# Altium footprint library VD.PcbLib: 16 footprints
Each footprint in its own frame and in the unit in brackets; x right, y up, seen from the top. Pads: shape width x height; smd on the part's side, far side on the other; paste and mask are expansions set on the pad; w line width, h text height; cw(c..) or ccw(c..) is an arc to the next point about the centre after c.
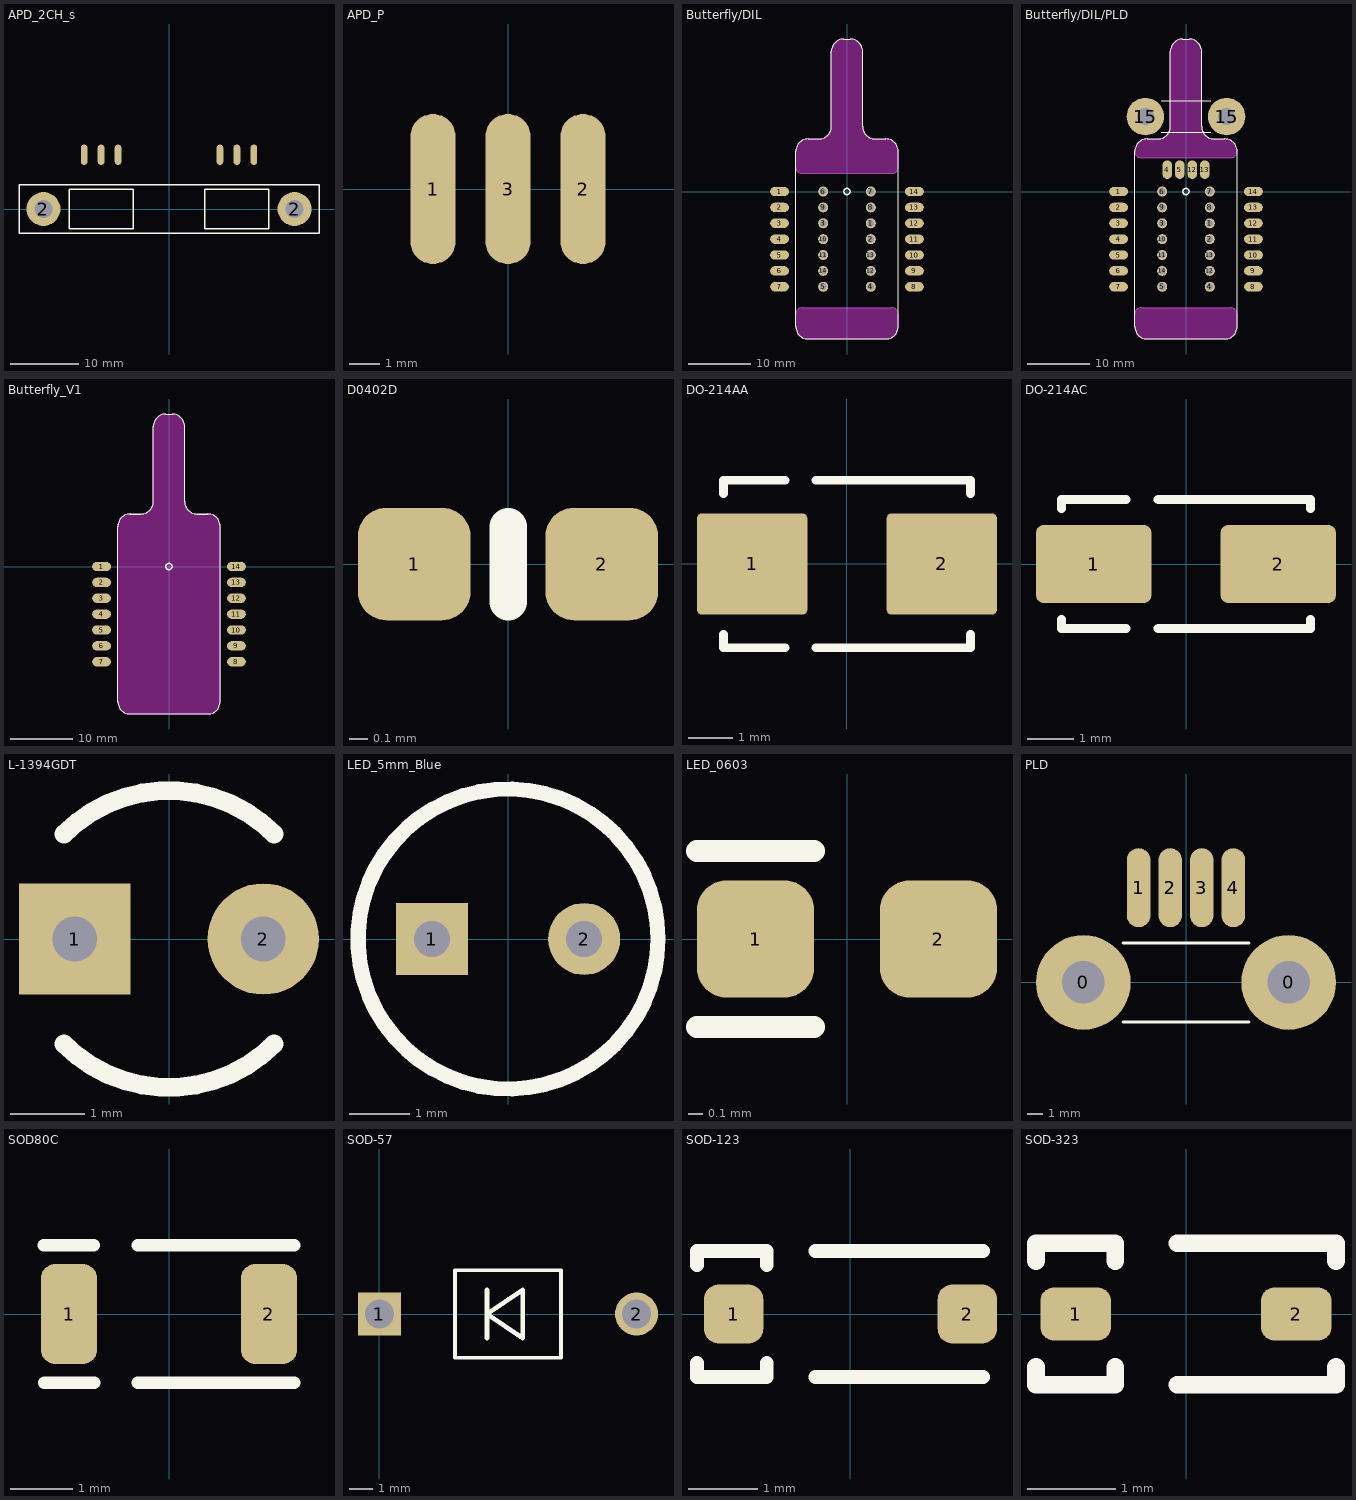
[diagram p0: the footprints below, top view; thin cyan lines are the x and y axes]

## APD_2CH_s [mm]
pads (8):
  oval 1x3 smd: 1(-12.5,8) 2(-10,8) 3(-7.5,8) 4(7.5,8) 5(10,8) 6(12.5,8)
  round 5 hole 2.6: 2(-18.5,0) 2(18.5,0)
Top Overlay:
  lines w0.2: -22.1,-3.6 -22.1,3.6 22.1,3.6 22.1,-3.6 -22.1,-3.6 ; -14.7,-2.9 -14.7,2.9 -5.3,2.9 -5.3,-2.9 -14.7,-2.9 ; 5.3,-2.9 5.3,2.9 14.7,2.9 14.7,-2.9 5.3,-2.9
Top Solder:
  pour cut-out: 14.6,-2.8 14.6,2.8 5.4,2.8 5.4,-2.8
  pour cut-out: -14.6,2.8 -14.6,-2.8 -5.4,-2.8 -5.4,2.8
3D body "Сборка_Радиатор.STEP": height 9, standoff 0, extent -22,-21.5 22,16.75

## APD_P [mm]
pads (3):
  oval 1.5x5 smd: 1(-2.5,0) 2(2.5,0) 3(0,0)

## Butterfly/DIL [mm]
pads (28):
  oval 3x1.5 smd: 1(-10.795,0) 2(-10.795,-2.54) 3(-10.795,-5.08) 4(-10.795,-7.62) 5(-10.795,-10.16) 6(-10.795,-12.7) 7(-10.795,-15.24) 8(10.795,-15.24) 9(10.795,-12.7) 10(10.795,-10.16) 11(10.795,-7.62) 12(10.795,-5.08) 13(10.795,-2.54) 14(10.795,0)
  round 1.6 hole 1: 1(3.81,-5.08) 2(3.81,-7.62) 3(-3.81,-5.08) 4(3.81,-15.24) 5(-3.81,-15.24) 6(-3.81,0) 7(3.81,0) 8(3.81,-2.54) 9(-3.81,-2.54) 10(-3.81,-7.62) 11(-3.81,-10.16) 12(3.81,-12.7) 13(3.81,-10.16) 14(-3.81,-12.7)
Top Overlay:
  circle w0.254: c0,0 r0.5
  lines w0.2: -2.5,10.41 cw(c-4.5,10.41) -4.5,8.41 -6.2,8.41 ccw(c-6.2,6.41) -8.2,6.41 -8.2,-21.59 ccw(c-6.2,-21.59) -6.2,-23.59 0,-23.59 6.2,-23.59 ccw(c6.2,-21.59) 8.2,-21.59 8.2,6.41 ccw(c6.2,6.41) 6.2,8.41 4.5,8.41 cw(c4.5,10.41) 2.5,10.41 2.5,22.41 ccw(c0.5,22.41) 0.5,24.41 -0.5,24.41 ccw(c-0.5,22.41) -2.5,22.41 ; -2.5,10.41 -2.5,22.41
Keep-Out Layer:
  board cut-out: -2.5,22.4 -2.5,10.4 -2.51,10.204 -2.586,9.819 -2.736,9.457 -2.954,9.131 -3.231,8.854 -3.557,8.636 -3.919,8.486 -4.304,8.41 -4.5,8.4 -6.2,8.4 -6.397,8.4 -6.783,8.323 -7.147,8.172 -7.475,7.953 -7.754,7.675 -7.972,7.347 -8.123,6.983 -8.2,6.597 -8.2,6.4 -8.2,3.9 -8.2,3.801 -8.162,3.608 -8.086,3.426 -7.977,3.263 -7.837,3.123 -7.674,3.014 -7.492,2.938 -7.298,2.9 -7.2,2.9 7.2,2.9 7.298,2.9 7.492,2.938 7.674,3.014 7.837,3.123 7.977,3.263 8.086,3.426 8.162,3.608 8.2,3.801 8.2,3.9 8.2,6.4 8.2,6.597 8.123,6.983 7.972,7.347 7.753,7.675 7.475,7.953 7.147,8.172 6.783,8.323 6.397,8.4 6.2,8.4 4.5,8.4 4.304,8.41 3.919,8.486 3.557,8.636 3.231,8.854 2.954,9.131 2.736,9.457 2.586,9.819 2.51,10.204 2.5,10.4 2.5,22.4 2.5,22.597 2.423,22.983 2.272,23.347 2.054,23.675 1.775,23.954 1.447,24.172 1.083,24.323 0.697,24.4 0.5,24.4 -0.5,24.4 -0.697,24.4 -1.083,24.323 -1.447,24.172 -1.775,23.954 -2.054,23.675 -2.272,23.347 -2.423,22.983 -2.5,22.597
  board cut-out: -7.2,-18.6 7.2,-18.6 7.298,-18.6 7.492,-18.638 7.674,-18.714 7.837,-18.823 7.977,-18.963 8.086,-19.126 8.162,-19.308 8.2,-19.502 8.2,-19.6 8.2,-21.6 8.2,-21.797 8.123,-22.183 7.972,-22.547 7.753,-22.875 7.475,-23.154 7.147,-23.372 6.783,-23.523 6.397,-23.6 6.2,-23.6 -6.2,-23.6 -6.397,-23.6 -6.783,-23.523 -7.147,-23.372 -7.475,-23.154 -7.754,-22.875 -7.972,-22.547 -8.123,-22.183 -8.2,-21.797 -8.2,-21.6 -8.2,-19.6 -8.2,-19.502 -8.162,-19.308 -8.086,-19.126 -7.977,-18.963 -7.837,-18.823 -7.674,-18.714 -7.492,-18.638 -7.298,-18.6
Mechanical 5:
  lines w0.2: -2.5,10.4 cw(c-4.5,10.4) -4.5,8.4 -6.2,8.4 ccw(c-6.2,6.4) -8.2,6.4 -8.2,3.9 ccw(c-7.2,3.9) -7.2,2.9 7.2,2.9 ccw(c7.2,3.9) 8.2,3.9 8.2,6.4 ccw(c6.2,6.4) 6.2,8.4 4.5,8.4 cw(c4.5,10.4) 2.5,10.4 2.5,22.4 ccw(c0.5,22.4) 0.5,24.4 ; -2.5,22.4 cw(c-0.5,22.4) -0.5,24.4 ; -2.5,10.4 -2.5,22.4 ; -0.5,24.4 0.5,24.4 ; -0.5,24.4 0.5,24.4 ; -8.2,-21.6 ccw(c-6.2,-21.6) -6.2,-23.6 0,-23.6 6.2,-23.6 ccw(c6.2,-21.6) 8.2,-21.6 8.2,-19.6 ccw(c7.2,-19.6) 7.2,-18.6 -7.2,-18.6 ccw(c-7.2,-19.6) -8.2,-19.6 -8.2,-21.6
Multi-Layer:
  lines w0.2: -2.5,10.4 cw(c-4.5,10.4) -4.5,8.4 -6.2,8.4 ccw(c-6.2,6.4) -8.2,6.4 -8.2,3.9 ccw(c-7.2,3.9) -7.2,2.9 7.2,2.9 ccw(c7.2,3.9) 8.2,3.9 8.2,6.4 ccw(c6.2,6.4) 6.2,8.4 4.5,8.4 cw(c4.5,10.4) 2.5,10.4 2.5,22.4 ccw(c0.5,22.4) 0.5,24.4 ; -2.5,22.4 cw(c-0.5,22.4) -0.5,24.4 ; -2.5,10.4 -2.5,22.4 ; -0.5,24.4 0.5,24.4 ; -0.5,24.4 0.5,24.4 ; -8.2,-21.6 ccw(c-6.2,-21.6) -6.2,-23.6 0,-23.6 6.2,-23.6 ccw(c6.2,-21.6) 8.2,-21.6 8.2,-19.6 ccw(c7.2,-19.6) 7.2,-18.6 -7.2,-18.6 ccw(c-7.2,-19.6) -8.2,-19.6 -8.2,-21.6
3D body "LC96P.STEP": height 3.18, standoff -4.48, extent -11.6,-22.62 11.6,27.88

## Butterfly/DIL/PLD [mm]
pads (34):
  oval 3x1.5 smd: 1(-10.795,0) 2(-10.795,-2.54) 3(-10.795,-5.08) 4(-10.795,-7.62) 5(-10.795,-10.16) 6(-10.795,-12.7) 7(-10.795,-15.24) 8(10.795,-15.24) 9(10.795,-12.7) 10(10.795,-10.16) 11(10.795,-7.62) 12(10.795,-5.08) 13(10.795,-2.54) 14(10.795,0)
  round 1.6 hole 1: 1(3.81,-5.08) 2(3.81,-7.62) 3(-3.81,-5.08) 4(3.81,-15.24) 5(-3.81,-15.24) 6(-3.81,0) 7(3.81,0) 8(3.81,-2.54) 9(-3.81,-2.54) 10(-3.81,-7.62) 11(-3.81,-10.16) 12(3.81,-12.7) 13(3.81,-10.16) 14(-3.81,-12.7)
  oval 1.5x3 smd: 4(-3,3.5) 5(-1,3.5) 12(1,3.5) 13(3,3.5)
  round 6 hole 2.7: 15(-6.5,12) 15(6.5,12)
Top Overlay:
  circle w0.254: c0,0 r0.5
  lines w0.2: -4,9.5 4,9.5 ; -4,14.5 4,14.5 ; -2.5,10.41 cw(c-4.5,10.41) -4.5,8.41 -6.2,8.41 ccw(c-6.2,6.41) -8.2,6.41 -8.2,-21.59 ccw(c-6.2,-21.59) -6.2,-23.59 0,-23.59 6.2,-23.59 ccw(c6.2,-21.59) 8.2,-21.59 8.2,6.41 ccw(c6.2,6.41) 6.2,8.41 4.5,8.41 cw(c4.5,10.41) 2.5,10.41 2.5,22.41 ccw(c0.5,22.41) 0.5,24.41 -0.5,24.41 ccw(c-0.5,22.41) -2.5,22.41 ; -2.5,10.41 -2.5,22.41
Keep-Out Layer:
  board cut-out: -0.5,24.4 -0.697,24.4 -1.083,24.323 -1.447,24.172 -1.775,23.954 -2.054,23.675 -2.272,23.347 -2.423,22.983 -2.5,22.597 -2.5,22.4 -2.5,10.4 -2.51,10.204 -2.586,9.819 -2.736,9.457 -2.954,9.131 -3.231,8.854 -3.557,8.636 -3.919,8.486 -4.304,8.41 -4.5,8.4 -6.2,8.4 -6.397,8.4 -6.783,8.323 -7.147,8.172 -7.475,7.953 -7.754,7.675 -7.972,7.347 -8.123,6.983 -8.2,6.597 -8.2,6.4 -8.2,6.302 -8.162,6.108 -8.086,5.926 -7.977,5.763 -7.837,5.623 -7.674,5.514 -7.492,5.438 -7.298,5.4 -7.2,5.4 7.2,5.4 7.298,5.4 7.492,5.438 7.674,5.514 7.837,5.623 7.977,5.763 8.086,5.926 8.162,6.108 8.2,6.302 8.2,6.4 8.2,6.597 8.123,6.983 7.972,7.347 7.753,7.675 7.475,7.953 7.147,8.172 6.783,8.323 6.397,8.4 6.2,8.4 4.5,8.4 4.304,8.41 3.919,8.486 3.557,8.636 3.231,8.854 2.954,9.131 2.736,9.457 2.586,9.819 2.51,10.204 2.5,10.4 2.5,22.4 2.5,22.597 2.423,22.983 2.272,23.347 2.054,23.675 1.775,23.954 1.447,24.172 1.083,24.323 0.697,24.4 0.5,24.4
  board cut-out: -7.2,-18.6 7.2,-18.6 7.298,-18.6 7.492,-18.638 7.674,-18.714 7.837,-18.823 7.977,-18.963 8.086,-19.126 8.162,-19.308 8.2,-19.502 8.2,-19.6 8.2,-21.6 8.2,-21.797 8.123,-22.183 7.972,-22.547 7.753,-22.875 7.475,-23.154 7.147,-23.372 6.783,-23.523 6.397,-23.6 6.2,-23.6 -6.2,-23.6 -6.397,-23.6 -6.783,-23.523 -7.147,-23.372 -7.475,-23.154 -7.754,-22.875 -7.972,-22.547 -8.123,-22.183 -8.2,-21.797 -8.2,-21.6 -8.2,-19.6 -8.2,-19.502 -8.162,-19.308 -8.086,-19.126 -7.977,-18.963 -7.837,-18.823 -7.674,-18.714 -7.492,-18.638 -7.298,-18.6
Mechanical 5:
  lines w0.2: -2.5,10.4 cw(c-4.5,10.4) -4.5,8.4 -6.2,8.4 ccw(c-6.2,6.4) -8.2,6.4 ccw(c-7.2,6.4) -7.2,5.4 7.2,5.4 ccw(c7.2,6.4) 8.2,6.4 ccw(c6.2,6.4) 6.2,8.4 4.5,8.4 cw(c4.5,10.4) 2.5,10.4 2.5,22.4 ccw(c0.5,22.4) 0.5,24.4 -0.5,24.4 ccw(c-0.5,22.4) -2.5,22.4 ; -2.5,10.4 -2.5,22.4 ; -8.2,-21.6 ccw(c-6.2,-21.6) -6.2,-23.6 0,-23.6 6.2,-23.6 ccw(c6.2,-21.6) 8.2,-21.6 8.2,-19.6 ccw(c7.2,-19.6) 7.2,-18.6 -7.2,-18.6 ccw(c-7.2,-19.6) -8.2,-19.6 -8.2,-21.6
Multi-Layer:
  lines w0.2: -2.5,10.4 cw(c-4.5,10.4) -4.5,8.4 -6.2,8.4 ccw(c-6.2,6.4) -8.2,6.4 ccw(c-7.2,6.4) -7.2,5.4 7.2,5.4 ccw(c7.2,6.4) 8.2,6.4 ccw(c6.2,6.4) 6.2,8.4 4.5,8.4 cw(c4.5,10.4) 2.5,10.4 2.5,22.4 ccw(c0.5,22.4) 0.5,24.4 -0.5,24.4 ccw(c-0.5,22.4) -2.5,22.4 ; -2.5,10.4 -2.5,22.4 ; -8.2,-21.6 ccw(c-6.2,-21.6) -6.2,-23.6 0,-23.6 6.2,-23.6 ccw(c6.2,-21.6) 8.2,-21.6 8.2,-19.6 ccw(c7.2,-19.6) 7.2,-18.6 -7.2,-18.6 ccw(c-7.2,-19.6) -8.2,-19.6 -8.2,-21.6
3D body "DIL.STEP": height 13.8, standoff -7.5, extent -12.5,-19.2 12.5,24.8
3D body: height 5, standoff 0, extent -8,10 8,29

## Butterfly_V1 [mm]
pads (14):
  oval 3x1.5 smd: 1(-10.795,0) 2(-10.795,-2.54) 3(-10.795,-5.08) 4(-10.795,-7.62) 5(-10.795,-10.16) 6(-10.795,-12.7) 7(-10.795,-15.24) 8(10.795,-15.24) 9(10.795,-12.7) 10(10.795,-10.16) 11(10.795,-7.62) 12(10.795,-5.08) 13(10.795,-2.54) 14(10.795,0)
Top Overlay:
  circle w0.254: c0,0 r0.5
  lines w0.2: -2.5,10.4 cw(c-4.5,10.4) -4.5,8.4 -6.2,8.4 ccw(c-6.2,6.4) -8.2,6.4 -8.2,-21.6 ccw(c-6.2,-21.6) -6.2,-23.6 0,-23.6 6.2,-23.6 ccw(c6.2,-21.6) 8.2,-21.6 8.2,6.4 ccw(c6.2,6.4) 6.2,8.4 4.5,8.4 cw(c4.5,10.4) 2.5,10.4 2.5,22.4 ccw(c0.5,22.4) 0.5,24.4 -0.5,24.4 ccw(c-0.5,22.4) -2.5,22.4 ; -2.5,10.41 cw(c-4.5,10.41) -4.5,8.41 -6.2,8.41 ccw(c-6.2,6.41) -8.2,6.41 -8.2,-21.59 ccw(c-6.2,-21.59) -6.2,-23.59 0,-23.59 6.2,-23.59 ccw(c6.2,-21.59) 8.2,-21.59 8.2,6.41 ccw(c6.2,6.41) 6.2,8.41 4.5,8.41 cw(c4.5,10.41) 2.5,10.41 2.5,22.41 ccw(c0.5,22.41) 0.5,24.41 -0.5,24.41 ccw(c-0.5,22.41) -2.5,22.41 ; -2.5,10.4 -2.5,22.4 ; -2.5,10.41 -2.5,22.41
Keep-Out Layer:
  board cut-out: -2.5,22.4 -2.5,10.4 -2.51,10.204 -2.586,9.819 -2.736,9.457 -2.954,9.131 -3.231,8.854 -3.557,8.636 -3.919,8.486 -4.304,8.41 -4.5,8.4 -6.2,8.4 -6.397,8.4 -6.783,8.323 -7.147,8.172 -7.475,7.953 -7.754,7.675 -7.972,7.347 -8.123,6.983 -8.2,6.597 -8.2,6.4 -8.2,-21.6 -8.2,-21.797 -8.123,-22.183 -7.972,-22.547 -7.754,-22.875 -7.475,-23.154 -7.147,-23.372 -6.783,-23.523 -6.397,-23.6 -6.2,-23.6 6.2,-23.6 6.397,-23.6 6.783,-23.523 7.147,-23.372 7.475,-23.154 7.753,-22.875 7.972,-22.547 8.123,-22.183 8.2,-21.797 8.2,-21.6 8.2,6.4 8.2,6.597 8.123,6.983 7.972,7.347 7.753,7.675 7.475,7.953 7.147,8.172 6.783,8.323 6.397,8.4 6.2,8.4 4.5,8.4 4.304,8.41 3.919,8.486 3.557,8.636 3.231,8.854 2.954,9.131 2.736,9.457 2.586,9.819 2.51,10.204 2.5,10.4 2.5,22.4 2.5,22.597 2.423,22.983 2.272,23.347 2.054,23.675 1.775,23.954 1.447,24.172 1.083,24.323 0.697,24.4 0.5,24.4 -0.5,24.4 -0.697,24.4 -1.083,24.323 -1.447,24.172 -1.775,23.954 -2.054,23.675 -2.272,23.347 -2.423,22.983 -2.5,22.597
Mechanical 5:
  lines w0.2: -2.5,10.4 cw(c-4.5,10.4) -4.5,8.4 -6.2,8.4 ccw(c-6.2,6.4) -8.2,6.4 -8.2,-21.6 ccw(c-6.2,-21.6) -6.2,-23.6 0,-23.6 6.2,-23.6 ccw(c6.2,-21.6) 8.2,-21.6 8.2,6.4 ccw(c6.2,6.4) 6.2,8.4 4.5,8.4 cw(c4.5,10.4) 2.5,10.4 2.5,22.4 ccw(c0.5,22.4) 0.5,24.4 ; -2.5,22.4 cw(c-0.5,22.4) -0.5,24.4 ; -2.5,10.4 -2.5,22.4 ; -0.5,24.4 0.5,24.4 ; -0.5,24.4 0.5,24.4 ; -0.5,24.4 0.5,24.4
Multi-Layer:
  lines w0.2: -2.5,10.4 cw(c-4.5,10.4) -4.5,8.4 -6.2,8.4 ccw(c-6.2,6.4) -8.2,6.4 -8.2,-21.6 ccw(c-6.2,-21.6) -6.2,-23.6 0,-23.6 6.2,-23.6 ccw(c6.2,-21.6) 8.2,-21.6 8.2,6.4 ccw(c6.2,6.4) 6.2,8.4 4.5,8.4 cw(c4.5,10.4) 2.5,10.4 2.5,22.4 ccw(c0.5,22.4) 0.5,24.4 ; -2.5,22.4 cw(c-0.5,22.4) -0.5,24.4 ; -2.5,10.4 -2.5,22.4 ; -0.5,24.4 0.5,24.4 ; -0.5,24.4 0.5,24.4 ; -0.5,24.4 0.5,24.4
3D body "LC96P.STEP": height 3.18, standoff -4.48, extent -11.6,-22.62 11.6,27.88

## D0402D [mm]
height 0.35
pads (2):
  rrect50% 0.6x0.6 smd: 1(-0.5,0) 2(0.5,0)
Top Overlay:
  lines w0.2: 0,-0.2 0,0.2
3D body "User Library-0402(1005M) Cap.step": height 0.51, standoff 0, extent -0.508,-0.254 0.508,0.254

## DO-214AA [mm]
pads (2):
  rrect10% 2.5x2.3 smd: 1(-2.15,0) 2(2.15,0)
Top Overlay:
  lines w0.2: -2.8,-1.6 -2.8,-1.9 -1.4,-1.9 ; -2.8,1.6 -2.8,1.9 -1.4,1.9 ; -0.7,-1.9 2.8,-1.9 2.8,-1.6 ; -0.7,1.9 2.8,1.9 2.8,1.6
3D body "SMBJ58A.STEP": height 2.6, standoff -0.01, extent -2.7,-1.81 2.7,1.81

## DO-214AC [mm]
pads (2):
  rrect20% 2.5x1.7 smd: 1(-2,0) 2(2,0)
Top Overlay:
  lines w0.2: -2.7,-1.2 -2.7,-1.4 -1.3,-1.4 ; -2.7,1.2 -2.7,1.4 -1.3,1.4 ; -0.6,-1.4 2.7,-1.4 2.7,-1.2 ; -0.6,1.4 2.7,1.4 2.7,1.2
3D body "EGF1B.STEP": height 2.7, standoff 0, extent -2.6,-1.362 2.6,1.363

## L-1394GDT [mm]
pads (2):
  rect 1.5x1.5 hole 0.6: 1(-1.27,0)
  round 1.5 hole 0.6: 2(1.27,0)
Top Overlay:
  lines w0.254: -1.414,-1.414 ccw(c0,0) 1.414,-1.414 ; -1.414,1.414 cw(c0,0) 1.414,1.414

## LED_5mm_Blue [mm]
pads (2):
  rect 1.2x1.2 hole 0.6: 1(-1.27,0)
  round 1.2 hole 0.6: 2(1.27,0)
Top Overlay:
  circle w0.254: c0,0 r2.5
3D body "everlight-5MM-LED-GREEN.STEP": height 10.04, standoff -5.93, extent -2.51,-2.95 2.94,2.95

## LED_0603 [mm]
pads (2):
  rrect50% 0.8x0.8 smd: 1(-0.625,0) 2(0.625,0)
Top Overlay:
  lines w0.15: -1.025,-0.6 -0.225,-0.6 ; -1.025,0.6 -0.225,0.6
3D body "KPT-1608YC.STEP": height 1.1, standoff 0, extent -0.8,-0.4 0.8,0.4

## PLD [mm]
pads (6):
  round 6 hole 2.7: 0(-6.5,0) 0(6.5,0)
  oval 1.5x5 smd: 1(-3,6) 2(-1,6) 3(1,6) 4(3,6)
Top Overlay:
  lines w0.2: -4,-2.5 4,-2.5 ; -4,2.5 4,2.5
3D body: height 5, standoff 0, extent -8,-17 8,2

## SOD80C [mm]
pads (2):
  rrect50% 0.9x1.6 smd: 1(-1.6,0) 2(1.6,0)
Top Overlay:
  lines w0.2: -2,-1.1 -1.2,-1.1 ; -2,1.1 -1.2,1.1 ; -0.5,-1.1 2,-1.1 ; -0.5,1.1 2,1.1
3D body "BZV55C10 L1.STEP": height 1.6, standoff 0, extent -1.75,-0.8 1.75,0.8

## SOD-57 [mm]
pads (2):
  rect 1.8x1.8 hole 1.2 mask+0: 1(0,0)
  round 1.8 hole 1.2 mask+0: 2(10.77,0)
Top Overlay:
  lines w0.152: 3.162,-1.829 3.162,1.829 7.607,1.829 7.607,-1.829 3.162,-1.829
  lines w0.2: 4.5,-1 4.5,1 ; 4.5,0 6,1 6,-1 4.5,0
3D body "SOD-57_VIS.step": height 3.4, standoff -2.54, extent -0.444,-1.704 11.214,1.704

## SOD-123 [mm]
pads (2):
  rrect50% 0.85x0.85 smd: 1(-1.675,0) 2(1.675,0)
Top Overlay:
  lines w0.2: -2.2,-0.7 -2.2,-0.9 -1.2,-0.9 -1.2,-0.7 ; -2.2,0.7 -2.2,0.9 -1.2,0.9 -1.2,0.7 ; -0.5,-0.9 1.9,-0.9 ; -0.5,0.9 1.9,0.9
3D body "MMSZ5251B.STEP": height 1.44, standoff -0.01, extent -1.825,-0.775 1.825,0.775

## SOD-323 [mm]
pads (2):
  rrect50% 0.8x0.6 smd: 1(-1.25,0) 2(1.25,0)
Top Overlay:
  lines w0.2: -1.7,-0.6 -1.7,-0.8 -0.8,-0.8 -0.8,-0.6 ; -1.7,0.6 -1.7,0.8 -0.8,0.8 -0.8,0.6 ; -0.1,-0.8 1.7,-0.8 1.7,-0.6 ; -0.1,0.8 1.7,0.8 1.7,0.6
3D body "BZX384-B4V3,115.STEP": height 1.1, standoff 0, extent -1.25,-0.625 1.25,0.625